# Altium schematic symbol library OPA376.SchLib: 2 symbols
Pins are listed as number, name and electrical type; pins without a type are passive.

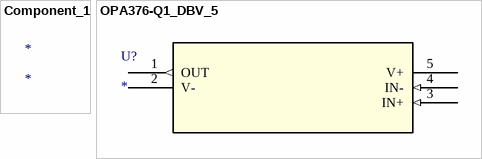
[diagram p0: symbols Component_1 to OPA376-Q1_DBV_5]

## Component_1
designator *

## OPA376-Q1_DBV_5
designator U?
Imported; Manufacturer: Texas Instruments; Manufacturer_Part_Number: OPA376-Q1_DBV_5; Built_By: EMA_UL_Team; C: Copyright (C) 2015 Accelerated Designs. All rights reserved; Vendor: Texas Instruments; RefDes: RefDes; Type: DEV; Value: Value
footprint DBV5
pins: 1 OUT (out), 2 V- (power), 3 IN+ (in), 4 IN- (in), 5 V+ (power)